# Altium footprint library SF1206HHA800R2.PcbLib: 1 footprints
Each footprint in its own frame and in the unit in brackets; x right, y up, seen from the top. Pads: shape width x height; smd on the part's side, far side on the other; paste and mask are expansions set on the pad; w line width, h text height; cw(c..) or ccw(c..) is an arc to the next point about the centre after c.
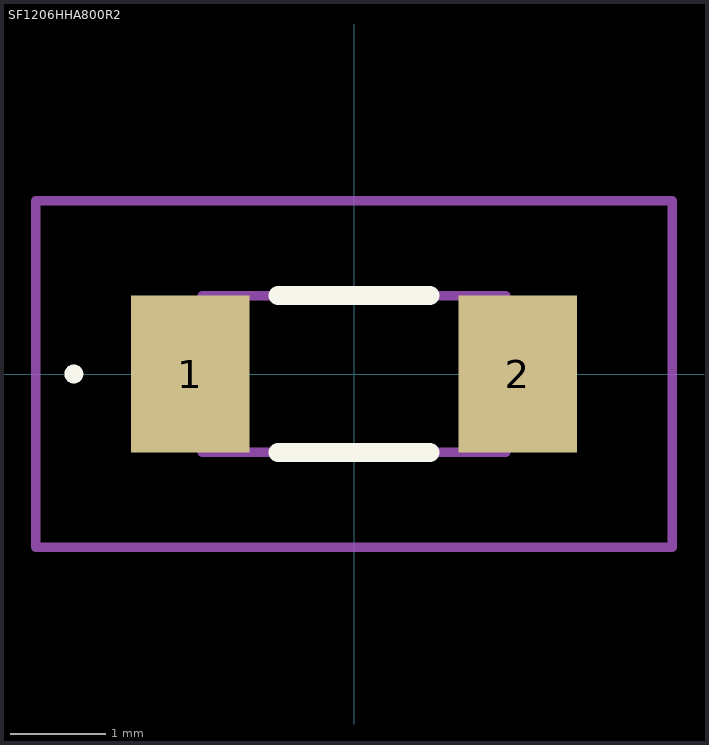
[diagram p0: the footprint, top view; thin cyan lines are the x and y axes]

## SF1206HHA800R2 [mm]
pads (2):
  rect 1.25x1.65 smd: 1(-1.725,0) 2(1.725,0)
Top Overlay:
  lines w0.1: -3,0 -3,0 ; -3,0 ccw(c-2.95,0) -2.9,0 ; -3,0 cw(c-2.95,0) -2.9,0 ; -2.9,0 -2.9,0
  lines w0.2: -0.8,-0.825 0.8,-0.825 ; -0.8,0.825 0.8,0.825
Mechanical 15:
  lines w0.1: -1.6,-0.825 1.6,-0.825 1.6,0.825 -1.6,0.825 -1.6,-0.825
Mechanical 20:
  lines w0.1: -3.35,-1.825 3.35,-1.825 3.35,1.825 -3.35,1.825 -3.35,-1.825